# Altium integrated library WE-TIHV_rev15a.intlib: 10 symbols
Pins are listed as number, name and electrical type; pins without a type are passive.

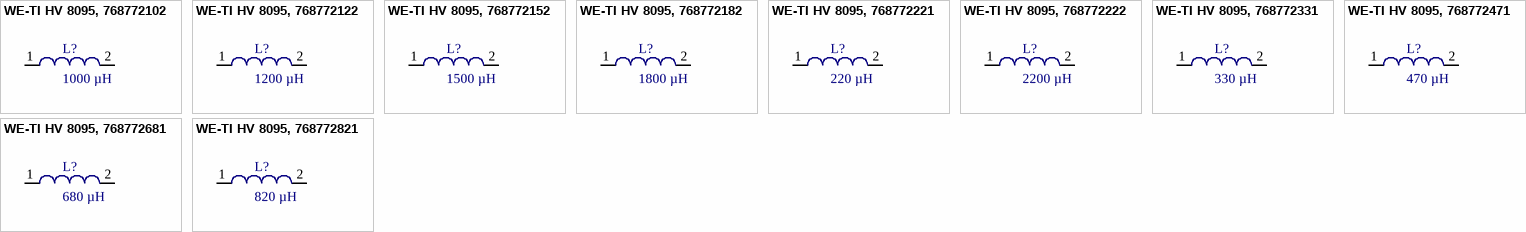
[diagram p0: symbols WE-TI HV 8095, 768772102 to WE-TI HV 8095, 768772821]

## WE-TI HV 8095, 768772102
designator L?, comment 1000 µH
SMD-Radial Leaded Wire Wound  Inductor WE-TI HV, L=1000 µH; PartNo: 768772102; Manufacturer: Würth Elektronik eiSos GmbH; Inductance: 1000 µH; ComponentLink1Description: Manufacturer; ComponentLink1URL: http://www.we-online.de; Created by: Christin Otto; Created Date: DEC-2013; ComponentLink2Description: Datasheet; ComponentLink2URL: http://www.we-online.de/katalog/media/pdf/768772102.pdf
footprint 8095 (THT, 2-PIN, Body (7.8 X7.8 mm),pitch 5mm)
pins: 1, 2

## WE-TI HV 8095, 768772122
designator L?, comment 1200 µH
SMD-Radial Leaded Wire Wound  Inductor WE-TI HV, L=1200 µH; PartNo: 768772122; Manufacturer: Würth Elektronik eiSos GmbH; Inductance: 1200 µH; ComponentLink1Description: Manufacturer; ComponentLink1URL: http://www.we-online.de; Created by: Christin Otto; Created Date: DEC-2013; ComponentLink2Description: Datasheet; ComponentLink2URL: http://www.we-online.de/katalog/media/pdf/768772122.pdf
footprint 8095 (THT, 2-PIN, Body (7.8 X7.8 mm),pitch 5mm)
pins: 1, 2

## WE-TI HV 8095, 768772152
designator L?, comment 1500 µH
SMD-Radial Leaded Wire Wound  Inductor WE-TI HV, L=1500 µH; PartNo: 768772152; Manufacturer: Würth Elektronik eiSos GmbH; Inductance: 1500 µH; ComponentLink1Description: Manufacturer; ComponentLink1URL: http://www.we-online.de; Created by: Christin Otto; Created Date: DEC-2013; ComponentLink2Description: Datasheet; ComponentLink2URL: http://www.we-online.de/katalog/media/pdf/768772152.pdf
footprint 8095 (THT, 2-PIN, Body (7.8 X7.8 mm),pitch 5mm)
pins: 1, 2

## WE-TI HV 8095, 768772182
designator L?, comment 1800 µH
SMD-Radial Leaded Wire Wound  Inductor WE-TI HV, L=1800 µH; PartNo: 768772182; Manufacturer: Würth Elektronik eiSos GmbH; Inductance: 1800 µH; ComponentLink1Description: Manufacturer; ComponentLink1URL: http://www.we-online.de; Created by: Christin Otto; Created Date: DEC-2013; ComponentLink2Description: Datasheet; ComponentLink2URL: http://www.we-online.de/katalog/media/pdf/768772182.pdf
footprint 8095 (THT, 2-PIN, Body (7.8 X7.8 mm),pitch 5mm)
pins: 1, 2

## WE-TI HV 8095, 768772221
designator L?, comment 220 µH
SMD-Radial Leaded Wire Wound  Inductor WE-TI HV, L=220 µH; PartNo: 768772221; Manufacturer: Würth Elektronik eiSos GmbH; Inductance: 220 µH; ComponentLink1Description: Manufacturer; ComponentLink1URL: http://www.we-online.de; Created by: Christin Otto; Created Date: DEC-2013; ComponentLink2Description: Datasheet; ComponentLink2URL: http://www.we-online.de/katalog/media/pdf/768772221.pdf
footprint 8095 (THT, 2-PIN, Body (7.8 X7.8 mm),pitch 5mm)
pins: 1, 2

## WE-TI HV 8095, 768772222
designator L?, comment 2200 µH
SMD-Radial Leaded Wire Wound  Inductor WE-TI HV, L=2200 µH; PartNo: 768772222; Manufacturer: Würth Elektronik eiSos GmbH; Inductance: 2200 µH; ComponentLink1Description: Manufacturer; ComponentLink1URL: http://www.we-online.de; Created by: Christin Otto; Created Date: DEC-2013; ComponentLink2Description: Datasheet; ComponentLink2URL: http://www.we-online.de/katalog/media/pdf/768772222.pdf
footprint 8095 (THT, 2-PIN, Body (7.8 X7.8 mm),pitch 5mm)
pins: 1, 2

## WE-TI HV 8095, 768772331
designator L?, comment 330 µH
SMD-Radial Leaded Wire Wound  Inductor WE-TI HV, L=330 µH; PartNo: 768772331; Manufacturer: Würth Elektronik eiSos GmbH; Inductance: 330 µH; ComponentLink1Description: Manufacturer; ComponentLink1URL: http://www.we-online.de; Created by: Christin Otto; Created Date: DEC-2013; ComponentLink2Description: Datasheet; ComponentLink2URL: http://www.we-online.de/katalog/media/pdf/768772331.pdf
footprint 8095 (THT, 2-PIN, Body (7.8 X7.8 mm),pitch 5mm)
pins: 1, 2

## WE-TI HV 8095, 768772471
designator L?, comment 470 µH
SMD-Radial Leaded Wire Wound  Inductor WE-TI HV, L=470 µH; PartNo: 768772471; Manufacturer: Würth Elektronik eiSos GmbH; Inductance: 470 µH; ComponentLink1Description: Manufacturer; ComponentLink1URL: http://www.we-online.de; Created by: Christin Otto; Created Date: DEC-2013; ComponentLink2Description: Datasheet; ComponentLink2URL: http://www.we-online.de/katalog/media/pdf/768772471.pdf
footprint 8095 (THT, 2-PIN, Body (7.8 X7.8 mm),pitch 5mm)
pins: 1, 2

## WE-TI HV 8095, 768772681
designator L?, comment 680 µH
SMD-Radial Leaded Wire Wound  Inductor WE-TI HV, L=680 µH; PartNo: 768772681; Manufacturer: Würth Elektronik eiSos GmbH; Inductance: 680 µH; ComponentLink1Description: Manufacturer; ComponentLink1URL: http://www.we-online.de; Created by: Christin Otto; Created Date: DEC-2013; ComponentLink2Description: Datasheet; ComponentLink2URL: http://www.we-online.de/katalog/media/pdf/768772681.pdf
footprint 8095 (THT, 2-PIN, Body (7.8 X7.8 mm),pitch 5mm)
pins: 1, 2

## WE-TI HV 8095, 768772821
designator L?, comment 820 µH
SMD-Radial Leaded Wire Wound  Inductor WE-TI HV, L=820 µH; PartNo: 768772821; Manufacturer: Würth Elektronik eiSos GmbH; Inductance: 820 µH; ComponentLink1Description: Manufacturer; ComponentLink1URL: http://www.we-online.de; Created by: Christin Otto; Created Date: DEC-2013; ComponentLink2Description: Datasheet; ComponentLink2URL: http://www.we-online.de/katalog/media/pdf/768772821.pdf
footprint 8095 (THT, 2-PIN, Body (7.8 X7.8 mm),pitch 5mm)
pins: 1, 2